# Altium schematic symbol library SCH - POWER - SWITCHMODE - TI TPS60400-Q1_DBV_5.SchLib: 1 symbol
Pins are listed as number, name and electrical type; pins without a type are passive.

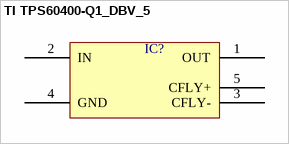
[diagram p0: symbol TI TPS60400-Q1_DBV_5]

## TI TPS60400-Q1_DBV_5
designator IC?  (value not drawn)
pins: 1 OUT, 2 IN, 3 CFLY-, 4 GND, 5 CFLY+